# Altium footprint library Flight_Computer1.PcbLib: 35 footprints (part 1 of 3)
Each footprint in its own frame and in the unit in brackets; x right, y up, seen from the top. Pads: shape width x height; smd on the part's side, far side on the other; paste and mask are expansions set on the pad; w line width, h text height; cw(c..) or ccw(c..) is an arc to the next point about the centre after c.
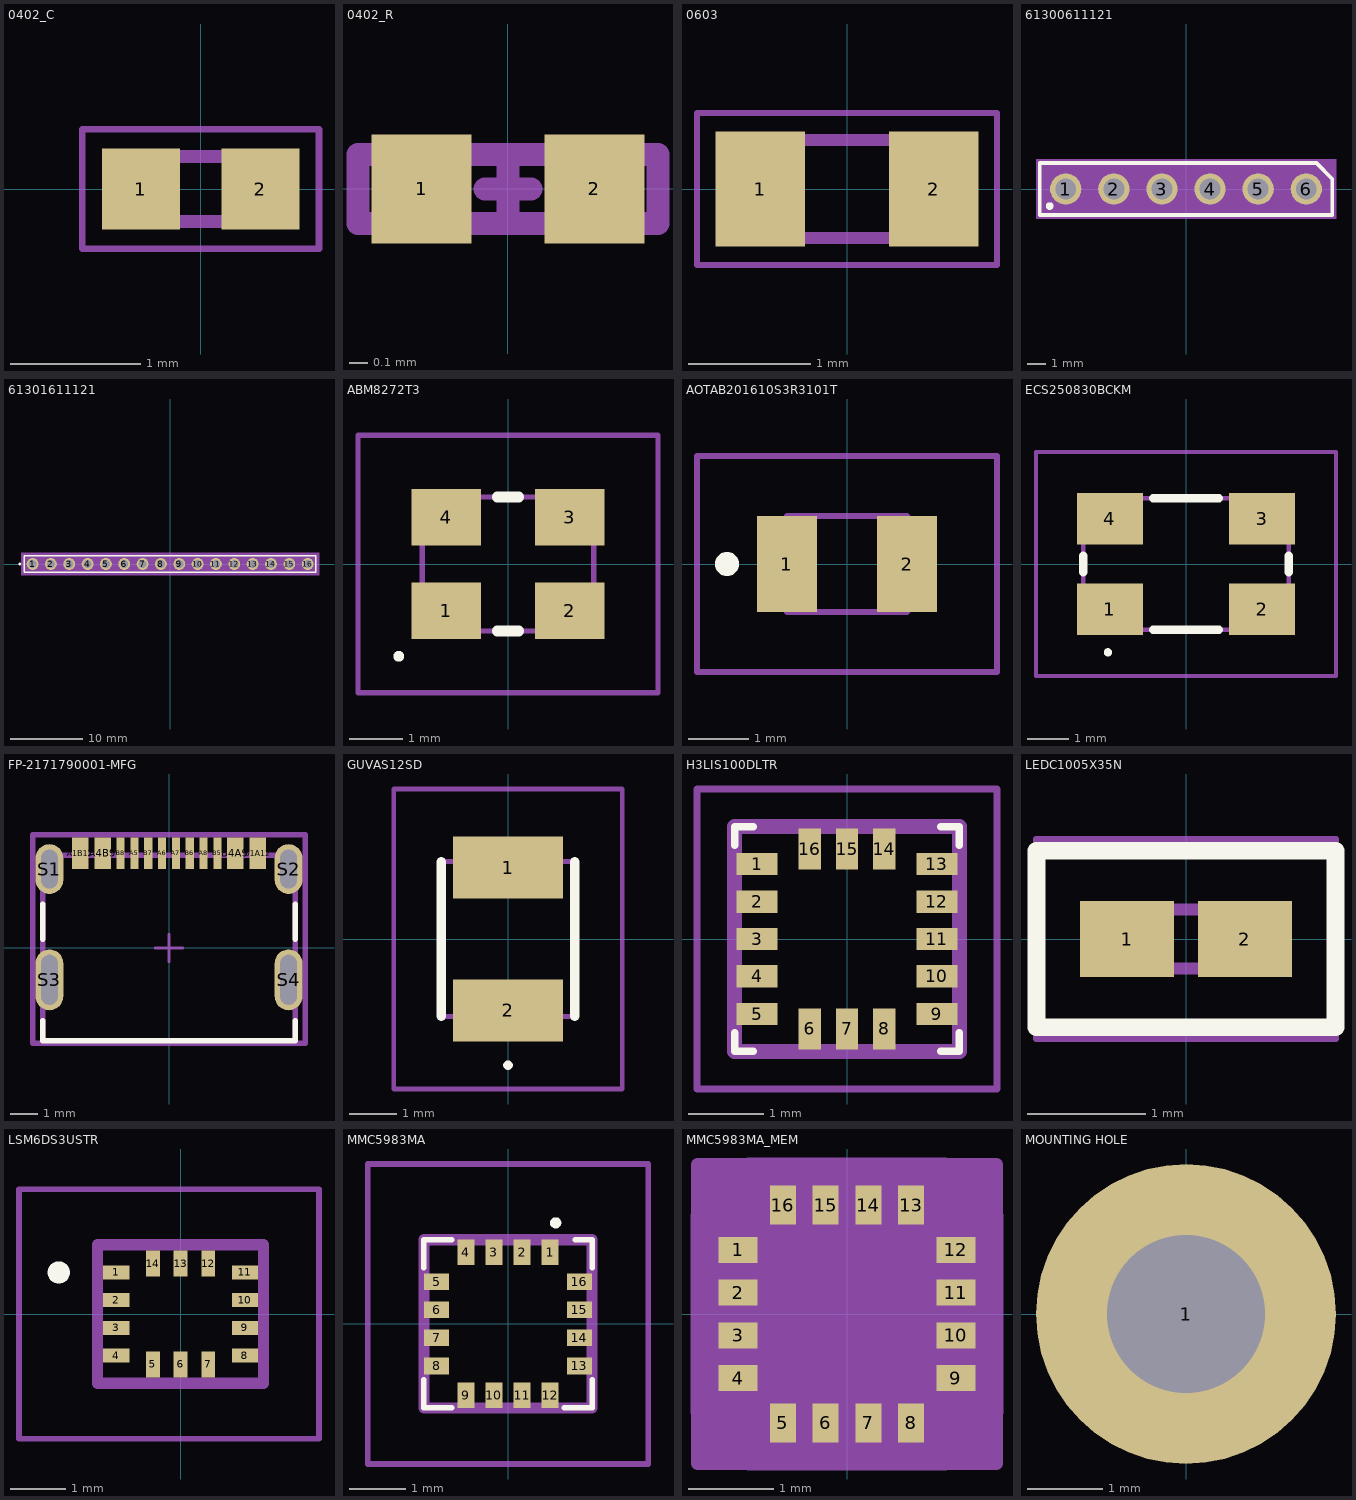
[diagram p0: the footprints below, top view; thin cyan lines are the x and y axes]

## 0402_C [mm]
pads (2):
  rect 0.6x0.62 smd: 1(-0.46,0) 2(0.46,0)
Top Layer:
  region: -1.397,0.254
Mechanical 13:
  lines w0.1: -0.5,-0.25 0.5,-0.25 0.5,0.25 -0.5,0.25 -0.5,-0.25
Mechanical 15:
  lines w0.05: -0.91,-0.46 0.91,-0.46 0.91,0.46 -0.91,0.46 -0.91,-0.46
3D body "CL05B104KO5NNNC.stp": height 0.55, standoff 0, extent -0.5,-0.25 0.5,0.25

## 0402_R [mm]
pads (2):
  rect 0.55x0.6 smd: 1(-0.475,0) 2(0.475,0)
Top Courtyard:
  lines w0.127: -0.127,0 0.127,0 ; 0,-0.127 0,0.127 ; -0.826,-0.191 0.826,-0.191 0.826,0.191 -0.826,0.191 -0.826,-0.191
3D body "RC0402FR-071KL.stp": height 0.4, standoff 0, extent -0.5,-0.25 0.5,0.25

## 0603 [mm]
pads (2):
  rect 0.73x0.94 smd: 1(-0.71,0) 2(0.71,0)
Mechanical 13:
  lines w0.1: -0.8,-0.4 -0.8,0.4 0.8,0.4 0.8,-0.4 -0.8,-0.4
Mechanical 15:
  lines w0.05: -1.225,-0.62 -1.225,0.62 1.225,0.62 1.225,-0.62 -1.225,-0.62
3D body "CL10A475KP8NNNC.stp": height 0.9, standoff 0, extent -0.8,-0.4 0.8,0.4

## 61300611121 [mm]
pads (6):
  round 1.65 hole 1.1: 1(-6.35,0) 2(-3.81,0) 3(-1.27,0) 4(1.27,0) 5(3.81,0) 6(6.35,0)
Top Overlay:
  circle w0.2: c-7.2,-0.9 r0.1
  lines w0.2: -7.72,-1.37 7.72,-1.37 7.72,0.535 6.885,1.37 -7.72,1.37 -7.72,-1.37
Mechanical 13:
  lines w0.1: -7.62,-1.27 -7.62,1.27 7.62,1.27 7.62,-1.27 -7.62,-1.27
Mechanical 15:
  region: 7.92,-1.57 -7.92,-1.57 -7.92,1.57 7.92,1.57

## 61301611121 [mm]
pads (16):
  round 1.65 hole 1.1: 1(-19.05,0) 2(-16.51,0) 3(-13.97,0) 4(-11.43,0) 5(-8.89,0) 6(-6.35,0) 7(-3.81,0) 8(-1.27,0) 9(1.27,0) 10(3.81,0) 11(6.35,0) 12(8.89,0) 13(11.43,0) 14(13.97,0) 15(16.51,0) 16(19.05,0)
Top Overlay:
  circle w0.2: c-20.828,0 r0.1
  lines w0.2: -20.193,-1.143 -20.193,1.143 20.193,1.143 20.193,-1.143 -20.193,-1.143
Mechanical 13:
  lines w0.1: -20.32,-1.27 20.32,-1.27 20.32,1.27 -20.32,1.27 -20.32,-1.27
Mechanical 15:
  region: 20.62,-1.57 -20.62,-1.57 -20.62,1.57 20.62,1.57
3D body "61301611121+%28rev1%29.stp": height 5.54, standoff -6, extent -20.32,-1.27 20.32,1.27

## ABM8272T3 [mm]
pads (4):
  rect 1.3x1.05 smd: 1(-1.15,-0.875) 2(1.15,-0.875) 3(1.15,0.875) 4(-1.15,0.875)
Top Overlay:
  lines w0.1: -2.039,-1.773 ccw(c-2.039,-1.723) -2.039,-1.673 ccw(c-2.039,-1.723) -2.039,-1.773
  lines w0.2: -0.2,-1.25 0.2,-1.25 ; -0.2,1.25 0.2,1.25
Mechanical 13:
  lines w0.1: -1.6,-1.25 1.6,-1.25 1.6,1.25 -1.6,1.25 -1.6,-1.25
Mechanical 15:
  lines w0.1: -2.8,-2.4 2.8,-2.4 2.8,2.4 -2.8,2.4 -2.8,-2.4
3D body "ABM8-272-T3.stp": height 0.75, standoff 0, extent -1.6,-1.25 1.6,1.25

## AOTAB201610S3R3101T [mm]
pads (2):
  rect 1x1.6 smd: 1(-1,0) 2(1,0)
Top Overlay:
  lines w0.2: -2,-0.1 cw(c-2,0) -2,0.1 cw(c-2,0) -2,-0.1
Mechanical 13:
  lines w0.1: -1,-0.8 1,-0.8 1,0.8 -1,0.8 -1,-0.8
Mechanical 15:
  lines w0.1: -2.5,-1.8 2.5,-1.8 2.5,1.8 -2.5,1.8 -2.5,-1.8
3D body "AOTA-B201610S3R3-101-T.stp": height 1, standoff 0, extent -1,-0.8 1,0.8

## ECS250830BCKM [mm]
pads (4):
  rect 1.6x1.25 smd: 1(-1.85,-1.1) 2(1.85,-1.1) 3(1.85,1.1) 4(-1.85,1.1)
Top Overlay:
  lines w0.1: -1.9,-2.2 ccw(c-1.9,-2.15) -1.9,-2.1 ; -1.9,-2.2 cw(c-1.9,-2.15) -1.9,-2.1 ; -1.9,-2.2 ccw(c-1.9,-2.15) -1.9,-2.1
  lines w0.2: -2.5,-0.2 -2.5,0.2 ; -0.8,-1.6 0.8,-1.6 ; -0.8,1.6 0.8,1.6 ; 2.5,-0.2 2.5,0.2
Mechanical 13:
  lines w0.1: -2.5,-1.6 2.5,-1.6 2.5,1.6 -2.5,1.6 -2.5,-1.6
Mechanical 15:
  lines w0.1: -3.65,-2.725 3.65,-2.725 3.65,2.725 -3.65,2.725 -3.65,-2.725
3D body "ECS-250-8-30B-CKM.stp": height 0.95, standoff 0, extent -2.525,-1.6 2.525,1.6

## FP-2171790001-MFG [mm]
pads (16):
  rect 0.6x1.15 smd paste+0 mask+0: A1B12(-3.2,3.425) A4B9(-2.4,3.425) B1A12(3.2,3.425) B4A9(2.4,3.425)
  rect 0.3x1.15 smd paste+0 mask+0: A5(-1.25,3.425) A6(-0.25,3.425) A7(0.25,3.425) A8(1.25,3.425) B5(1.75,3.425) B6(0.75,3.425) B7(-0.75,3.425) B8(-1.75,3.425)
  rrect100% 1x1.8 hole 1.4 slot 0.6 at 0 deg paste-2539.97 mask+0: S1(-4.32,2.85) S2(4.32,2.85)
  rrect100% 1x2.2 hole 1.8 slot 0.6 at 0 deg paste-2539.97 mask+0: S3(-4.32,-1.15) S4(4.32,-1.15)
Top Overlay:
  lines w0.2: -4.57,-2.625 -4.57,-3.35 4.57,-3.35 4.57,-2.625 ; -4.57,0.325 -4.57,1.575 ; 4.57,0.325 4.57,1.575
Top 3D Body:
  lines w0.2: -4.57,-3.35 4.57,-3.35 4.57,3.35 -4.57,3.35 -4.57,-3.35
Top Courtyard:
  lines w0.2: -4.92,-3.45 4.92,-3.45 4.92,4.1 -4.92,4.1 -4.92,-3.45
Top Assembly:
  lines w0.2: -4.92,-3.45 4.92,-3.45 4.92,4.1 -4.92,4.1 -4.92,-3.45
  text ".Designator" at 0,0.514 h1
Top Component Center:
  lines w0.1: -0.5,0 0.5,0 ; 0,-0.5 0,0.5
3D body "Conn_Molex_2171790001_eec.STEP": height 0.25, standoff 0, extent -4.92,-3.45 4.92,4.1

## GUVAS12SD [mm]
pads (2):
  rect 2.3x1.3 smd: 1(0,1.5) 2(0,-1.5)
Top Overlay:
  lines w0.1: 0,-2.7 cw(c0,-2.65) 0,-2.6 cw(c0,-2.65) 0,-2.7
  lines w0.2: -1.4,-1.625 -1.4,1.625 ; 1.4,-1.625 1.4,1.625
Mechanical 13:
  lines w0.1: -1.4,-1.625 1.4,-1.625 1.4,1.625 -1.4,1.625 -1.4,-1.625
Mechanical 15:
  lines w0.1: -2.4,-3.15 2.4,-3.15 2.4,3.15 -2.4,3.15 -2.4,-3.15
3D body "GUVA-S12SD.stp": height 2.05, standoff 0, extent -1.4,-2.02 1.4,2.02

## H3LIS100DLTR [mm]
pads (16):
  rect 0.55x0.3 smd: 1(-1.2,1) 2(-1.2,0.5) 3(-1.2,0) 4(-1.2,-0.5) 5(-1.2,-1) 9(1.2,-1) 10(1.2,-0.5) 11(1.2,0) 12(1.2,0.5) 13(1.2,1)
  rect 0.3x0.55 smd: 6(-0.5,-1.2) 7(0,-1.2) 8(0.5,-1.2) 14(0.5,1.2) 15(0,1.2) 16(-0.5,1.2)
Top Overlay:
  lines w0.1: -1.5,-1.25 -1.5,-1.5 -1.25,-1.5 ; -1.5,1.25 -1.5,1.5 -1.25,1.5 ; 1.25,-1.5 1.5,-1.5 1.5,-1.25 ; 1.25,1.5 1.5,1.5 1.5,1.25
Mechanical 13:
  lines w0.2: -1.5,-1.5 -1.5,1.5 1.5,1.5 1.5,-1.5 -1.5,-1.5
Mechanical 15:
  lines w0.1: -2,-2 -2,2 2,2 2,-2 -2,-2
3D body "H3LIS100DLTR.stp": height 1, standoff 0, extent -1.5,-1.5 1.5,1.5

## LEDC1005X35N [mm]
pads (2):
  rect 0.8x0.65 smd: 1(-0.5,0) 2(0.5,0)
Top Overlay:
  lines w0.152: -1.27,-0.75 -1.27,0.75 0.5,0.75 1.27,0.75 1.27,-0.75 0.5,-0.75 -1.27,-0.75
Mechanical 13:
  lines w0.1: -0.5,0.083 -0.333,0.25 ; -0.5,-0.25 -0.5,0.25 0.5,0.25 0.5,-0.25 -0.5,-0.25
Mechanical 15:
  lines w0.05: -1.275,-0.85 -1.275,0.85 1.275,0.85 1.275,-0.85 -1.275,-0.85
3D body "VLMG1500-GS08.stp": height 0.36, standoff 0.01, extent -0.5,-0.246 0.5,0.254

## LSM6DS3USTR [mm]
pads (14):
  rect 0.475x0.25 smd: 1(-1.163,0.75) 2(-1.163,0.25) 3(-1.163,-0.25) 4(-1.163,-0.75) 8(1.163,-0.75) 9(1.163,-0.25) 10(1.163,0.25) 11(1.163,0.75)
  rect 0.25x0.475 smd: 5(-0.5,-0.912) 6(0,-0.912) 7(0.5,-0.912) 12(0.5,0.912) 13(0,0.912) 14(-0.5,0.912)
Top Overlay:
  lines w0.2: -2.2,0.65 cw(c-2.2,0.75) -2.2,0.85 cw(c-2.2,0.75) -2.2,0.65
Mechanical 13:
  lines w0.2: -1.5,-1.25 1.5,-1.25 1.5,1.25 -1.5,1.25 -1.5,-1.25
Mechanical 15:
  lines w0.1: -2.918,-2.25 2.5,-2.25 2.5,2.25 -2.918,2.25 -2.918,-2.25
3D body "ASM330LHHTR.stp": height 0.86, standoff 0, extent -1.5,-1.25 1.5,1.25

## MMC5983MA [mm]
pads (16):
  rect 0.3x0.45 smd: 1(0.75,1.275) 2(0.25,1.275) 3(-0.25,1.275) 4(-0.75,1.275) 9(-0.75,-1.275) 10(-0.25,-1.275) 11(0.25,-1.275) 12(0.75,-1.275)
  rect 0.45x0.3 smd: 5(-1.275,0.75) 6(-1.275,0.25) 7(-1.275,-0.25) 8(-1.275,-0.75) 13(1.275,-0.75) 14(1.275,-0.25) 15(1.275,0.25) 16(1.275,0.75)
Top Overlay:
  lines w0.1: -1.5,-1 -1.5,-1.5 -1,-1.5 ; -1.5,1 -1.5,1.5 -1,1.5 ; 1,-1.5 1.5,-1.5 1.5,-1 ; 1.2,1.5 1.5,1.5 1.5,1 ; 0.8,1.8 ccw(c0.85,1.8) 0.9,1.8 ccw(c0.85,1.8) 0.8,1.8
Mechanical 13:
  lines w0.2: -1.5,-1.5 1.5,-1.5 1.5,1.5 -1.5,1.5 -1.5,-1.5
Mechanical 15:
  lines w0.1: -2.5,-2.5 2.5,-2.5 2.5,2.85 -2.5,2.85 -2.5,-2.5
3D body "MMC5983MA.stp": height 1, standoff 0, extent -1.5,-1.32 1.5,1.68

## MMC5983MA_MEM [mm]
pads (16):
  rect 0.457x0.305 smd paste+0 mask+0: 1(-1.275,0.75) 2(-1.275,0.25) 3(-1.275,-0.25) 4(-1.275,-0.75) 9(1.275,-0.75) 10(1.275,-0.25) 11(1.275,0.25) 12(1.275,0.75)
  rect 0.305x0.457 smd paste+0 mask+0: 5(-0.75,-1.275) 6(-0.25,-1.275) 7(0.25,-1.275) 8(0.75,-1.275) 13(0.75,1.275) 14(0.25,1.275) 15(-0.25,1.275) 16(-0.75,1.275)
Mechanical 13:
  lines w0.025: -1.499,0.229 -0.229,1.499 ; -1.499,-1.499 1.499,-1.499 1.499,1.499 -1.499,1.499 -1.499,-1.499
  text "*" at -1.11,0.365 h1.27
Mechanical 15:
  region: -1.156,-1.753 -1.753,-1.753 -1.753,-1.156 -1.758,-1.156 -1.758,1.156 -1.753,1.156 -1.753,1.753 -1.156,1.753 -1.156,1.758 1.156,1.758 1.156,1.753 1.753,1.753 1.753,1.156 1.758,1.156 1.758,-1.156 1.753,-1.156 1.753,-1.753 1.156,-1.753 1.156,-1.758 -1.156,-1.758
  lines w0.152: -1.758,-1.156 -1.753,-1.156 -1.753,-1.753 -1.156,-1.753 -1.156,-1.758 1.156,-1.758 1.156,-1.753 1.753,-1.753 1.753,-1.156 1.758,-1.156 1.758,1.156 1.753,1.156 1.753,1.753 1.156,1.753 1.156,1.758 -1.156,1.758 -1.156,1.753 -1.753,1.753 -1.753,1.156 -1.758,1.156 -1.758,-1.156
3D body "MMC5983MA_MEM.step": height 0.99, standoff 0, extent -1.549,-1.549 1.549,1.549

## MOUNTING HOLE [mm]
pads (1):
  round 4 hole 2.1: 1(0,0)